# Altium footprint library CAPAE1700X1700.PcbLib: 1 footprints
Each footprint in its own frame and in the unit in brackets; x right, y up, seen from the top. Pads: shape width x height; smd on the part's side, far side on the other; paste and mask are expansions set on the pad; w line width, h text height; cw(c..) or ccw(c..) is an arc to the next point about the centre after c.
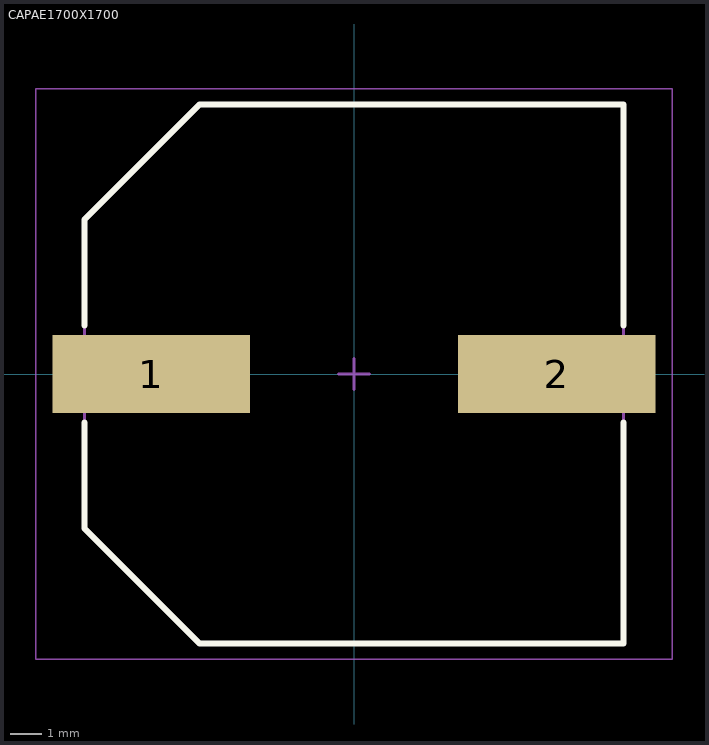
[diagram p0: the footprint, top view; thin cyan lines are the x and y axes]

## CAPAE1700X1700 [mm] "Aluminum Electrolytic Capacitor, Body 17,00x17,00x17,00mm, IPC Medium Density (Panasonic)"
height 17
pads (2):
  rect 6.3x2.5 smd: 1(-6.475,0) 2(6.475,0)
Top Overlay:
  lines w0.2: -8.6,-1.55 -8.6,-4.925 -4.925,-8.6 8.6,-8.6 8.6,-1.55 ; -8.6,1.55 -8.6,4.925 -4.925,8.6 8.6,8.6 8.6,1.55
3D Body:
  lines w0.1: -8.6,-4.925 -4.925,-8.6 8.6,-8.6 8.6,8.6 -4.925,8.6 -8.6,4.925 -8.6,-4.925
Board:
  lines w0.05: -10.15,-9.1 -10.15,9.1 10.15,9.1 10.15,-9.1 -10.15,-9.1
  lines w0.1: -0.5,0 0.5,0 ; 0,-0.5 0,0.5
3D body: height 5.67, standoff 0, extent -8.6,-8.6 8.6,8.6
3D body: height 17, standoff 0, extent -8.25,-8.25 8.25,8.244